# Altium footprint library PcbLib1.PcbLib: 2 footprints
Each footprint in its own frame and in the unit in brackets; x right, y up, seen from the top. Pads: shape width x height; smd on the part's side, far side on the other; paste and mask are expansions set on the pad; w line width, h text height; cw(c..) or ccw(c..) is an arc to the next point about the centre after c.
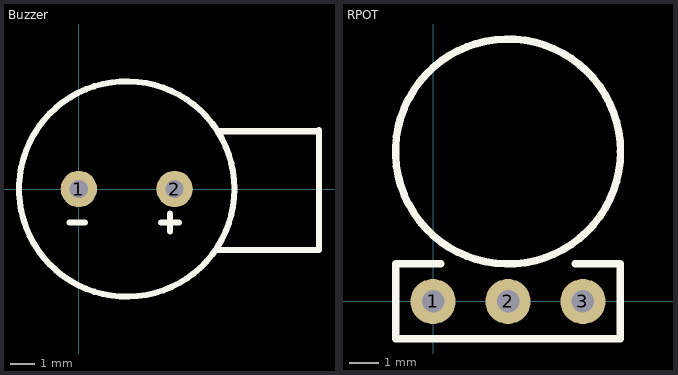
[diagram p0: the footprints below, top view; thin cyan lines are the x and y axes]

## Buzzer [mil]
pads (2):
  round 60 hole 30: 1(0,0) 2(157.48,0)
Top Overlay:
  circle w10: c78.74,0 r177.17
  lines w10: -15,-55 10,-55 ; 135,-55 165,-55 ; 150,-70 150,-40 ; 225,-100 395,-100 395,96.85 ; 230,95 395,95
3D body: height 122.05, standoff 3.94, extent -95,-176.82 257.93,176.82
3D body: height 118.11, standoff 3.94, extent 230,-105 400,100

## RPOT [mil]
pads (3):
  round 60 hole 30: 1(0,0) 2(100,0) 3(200,0)
Top Overlay:
  circle w10: c100,200 r150
  lines w10: 10,50 -50,50 -50,-50 250,-50 250,50 190,50
3D body: height 100.1, standoff 0.1, extent -50,50 248.82,349.41
3D body: height 100, standoff 0.1, extent -50,48.82 250,50
3D body: height 100, standoff 0.1, extent 248.82,-50 250,50
3D body: height 100, standoff 0.1, extent -50,-50 250,50